# Altium footprint library MQ6.PcbLib: 1 footprints
Each footprint in its own frame and in the unit in brackets; x right, y up, seen from the top. Pads: shape width x height; smd on the part's side, far side on the other; paste and mask are expansions set on the pad; w line width, h text height; cw(c..) or ccw(c..) is an arc to the next point about the centre after c.
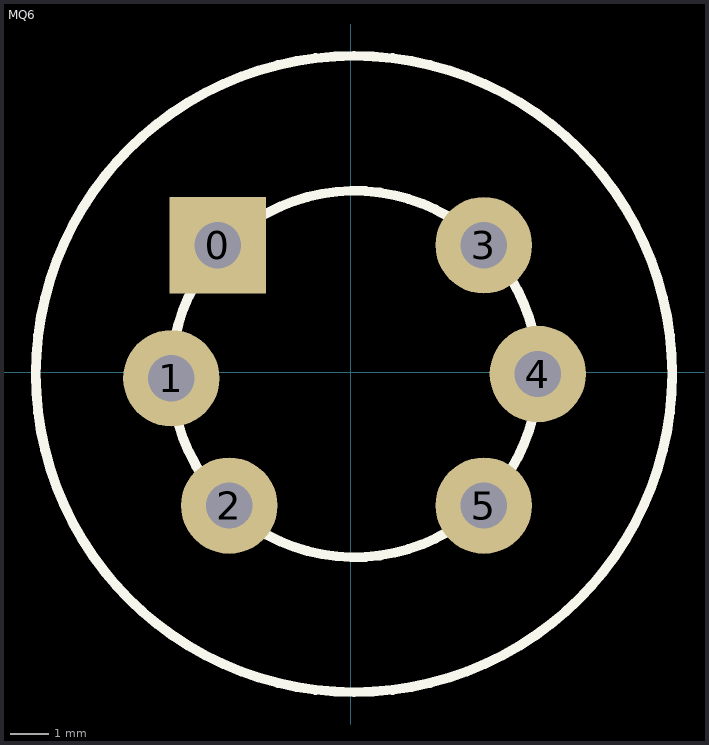
[diagram p0: the footprint, top view; thin cyan lines are the x and y axes]

## MQ6 [mm]
height 3
pads (6):
  rect 2.5x2.5 hole 1.2: 0(-3.45,3.3)
  round 2.5 hole 1.2: 1(-4.65,-0.15) 2(-3.15,-3.45) 3(3.45,3.3) 4(4.852,-0.039) 5(3.45,-3.45)
Top Overlay:
  circle w0.254: c0.085,-0.039 r8.25
  circle w0.254: c0.102,-0.039 r4.75